# Altium footprint library 40_Pin_Connector.PcbLib: 1 footprints
Each footprint in its own frame and in the unit in brackets; x right, y up, seen from the top. Pads: shape width x height; smd on the part's side, far side on the other; paste and mask are expansions set on the pad; w line width, h text height; cw(c..) or ccw(c..) is an arc to the next point about the centre after c.
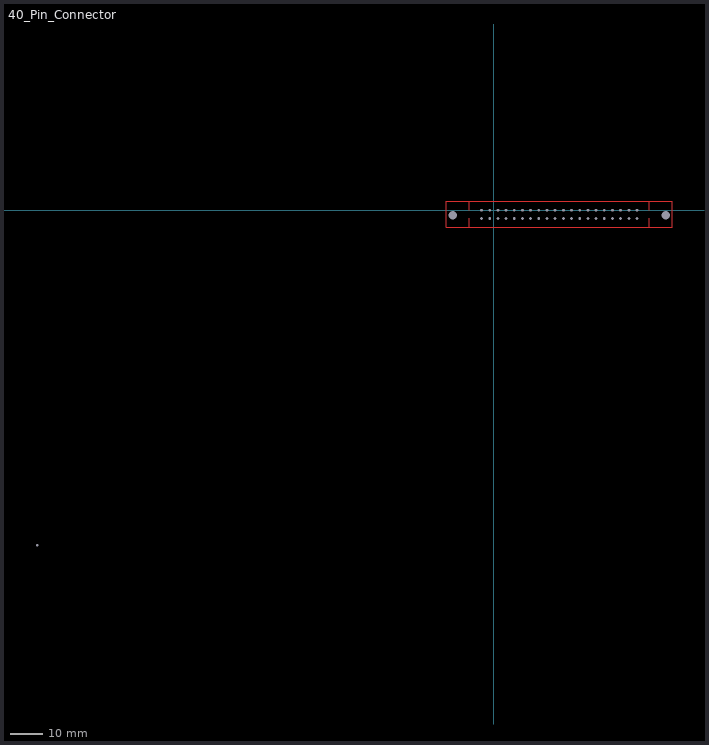
[diagram p0: the footprint, top view; thin cyan lines are the x and y axes]

## 40_Pin_Connector [mm]
pads (63):
  round 0 hole 0.89: 1(-3.81,0) 1(-3.81,0) 2(-141.732,-104.013) 2(-1.27,0) 2(-1.27,0) 3(1.27,0) 3(1.27,0) 4(3.81,0) 4(3.81,0) 5(6.35,0) 5(6.35,0) 6(8.89,0) 6(8.89,0) 7(11.43,0) 7(11.43,0) 8(13.97,0) 8(13.97,0) 9(16.51,0) 9(16.51,0) 10(19.05,0) 10(19.05,0) 11(21.59,0) 11(21.59,0) 12(24.13,0) 12(24.13,0) 13(26.67,0) 13(26.67,0) 14(29.21,0) 14(29.21,0) 15(31.75,0) 15(31.75,0) 16(34.29,0) 16(34.29,0) 17(36.83,0) 17(36.83,0) 18(39.37,0) 18(39.37,0) 19(41.91,0) 19(41.91,0) 20(44.45,0) 20(44.45,0) 21(-3.81,-2.54) 22(-1.27,-2.54) 23(1.27,-2.54) 24(3.81,-2.54) 25(6.35,-2.54) 26(8.89,-2.54) 27(11.43,-2.54) 28(13.97,-2.54) 29(16.51,-2.54) 30(19.05,-2.54) 31(21.59,-2.54) 32(24.13,-2.54) 33(26.67,-2.54) 34(29.21,-2.54) 35(31.75,-2.54) 36(34.29,-2.54) 37(36.83,-2.54) 38(39.37,-2.54) 39(41.91,-2.54) 40(44.45,-2.54)
  round 0 hole 2.69: 41(-12.7,-1.524) 42(53.34,-1.524)
Top Layer:
  lines w0.254: -7.62,-2.54 -7.62,-5.334 ; -7.62,0 -7.62,2.794 ; 48.26,-2.54 48.26,-5.334 ; 48.26,0 48.26,2.794 ; -7.62,-5.334 -14.732,-5.334 -14.732,2.794 -7.62,2.794 ; -7.62,-5.334 -3.81,-5.334 44.45,-5.334 46.482,-5.334 46.736,-5.334 48.26,-5.334 ; -7.62,2.794 -3.81,2.794 46.355,2.794 46.736,2.794 48.26,2.794 ; 48.26,-5.334 55.372,-5.334 55.372,2.794 48.26,2.794